# Altium integrated library ESC_2.IntLib: 5 symbols
Pins are listed as number, name and electrical type; pins without a type are passive.

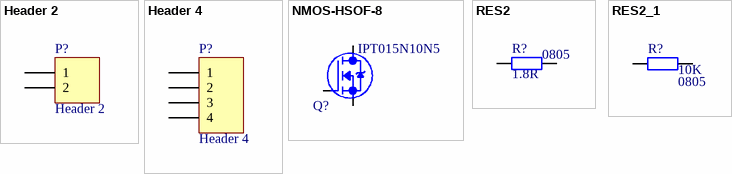
[diagram p0: symbols Header 2 to RES2_1]

## Header 2
designator P?
Header, 2-Pin; LatestRevisionDate: 17-Jul-2002; LatestRevisionNote: Re-released for DXP Platform.; Publisher: Altium Limited
footprint HDR2.54-LI-2P (排针，2脚)
signal-integrity model Connector
footprint HDR2.54-M-LI-2P (排母，2脚)
footprint HDR2.54-M-WS-2P (2P卧式贴片排母2.54)
footprint HDR2.54-Y-LI-2P (圆孔排母，2脚)
footprint HDR2.54-WI-2P (弯脚排针，2脚)
pins: 1, 2

## Header 4
designator P?
Header, 4-Pin; LatestRevisionDate: 17-Jul-2002; LatestRevisionNote: Re-released for DXP Platform.; Publisher: Altium Limited
footprint HDR2.54-LI-4P (排针，4脚)
signal-integrity model Connector
footprint HDR2.54-M-LI-4P (排母，4脚)
footprint HDR2.54-WI-4P (弯脚排针，4脚)
footprint HDR2.54-M-WS-4P (4P卧式贴片排母2.54)
footprint HDR2.54-Y-LI-4P (圆孔排母，4脚)
pins: 1, 2, 3, 4

## NMOS-HSOF-8
designator Q?, comment IPT015N10N5
footprint HSOF-8
pins: 1 G, 2-8 S, 9 D

## RES2
designator R?, comment 0805  value 1.8R
Resistor; Published: 8-Jun-2000; LatestRevisionDate: 17-Jul-2002; LatestRevisionNote: Re-released for DXP Platform.; PackageReference: AXIAL-0.3; Publisher: Altium Limited; PackageDescription: Axial Device, Thru-Hole; 2 Leads; 0.3 in Pin Spacing
footprint R 0805_L (1/8W贴片电阻)
simulation model RESISTOR (Resistor)
signal-integrity model Res
footprint R 0402_L (1/16W贴片电阻)
footprint R 1206_L (1/4W贴片电阻)
footprint RS 1/2W (直插色环电阻，脚距12.5mm，直径3mm)
footprint RS 1/2W-V4 (直插色环电阻，脚距4mm，直径3mm)
footprint RS 1/4W (直插色环电阻，脚距9mm，直径2.3mm)
footprint RS 1/4W-V3 (直插色环电阻，脚距3mm，直径2.3mm)
footprint RS 1/8W (直插色环电阻，脚距6mm，直径1.5mm)
footprint RS 1/8W-V2 (直插色环电阻，脚距2mm，直径1.5mm)
footprint RS 1W (直插色环电阻，脚距15mm，直径4mm)
footprint RS 1W-V5 (直插色环电阻，脚距5mm，直径4mm)
footprint RX10-18*15*5 (18*15*5MM(长*宽*厚))
pins: 1, 2

## RES2_1
designator R?, comment 0805  value 10K
Resistor; Published: 8-Jun-2000; LatestRevisionDate: 17-Jul-2002; LatestRevisionNote: Re-released for DXP Platform.; PackageReference: AXIAL-0.3; Publisher: Altium Limited; PackageDescription: Axial Device, Thru-Hole; 2 Leads; 0.3 in Pin Spacing
footprint R 0805_L (1/8W贴片电阻)
simulation model RESISTOR (Resistor)
signal-integrity model Res
footprint R 0402_L (1/16W贴片电阻)
footprint R 1206_L (1/4W贴片电阻)
footprint RS 1/2W (直插色环电阻，脚距12.5mm，直径3mm)
footprint RS 1/2W-V4 (直插色环电阻，脚距4mm，直径3mm)
footprint RS 1/4W (直插色环电阻，脚距9mm，直径2.3mm)
footprint RS 1/4W-V3 (直插色环电阻，脚距3mm，直径2.3mm)
footprint RS 1/8W (直插色环电阻，脚距6mm，直径1.5mm)
footprint RS 1/8W-V2 (直插色环电阻，脚距2mm，直径1.5mm)
footprint RS 1W (直插色环电阻，脚距15mm，直径4mm)
footprint RS 1W-V5 (直插色环电阻，脚距5mm，直径4mm)
footprint RX10-18*15*5 (18*15*5MM(长*宽*厚))
pins: 1, 2